# Altium footprint library micro-fujitsu.PCBLIB: 28 footprints (part 1 of 2)
Each footprint in its own frame and in the unit in brackets; x right, y up, seen from the top. Pads: shape width x height; smd on the part's side, far side on the other; paste and mask are expansions set on the pad; w line width, h text height; cw(c..) or ccw(c..) is an arc to the next point about the centre after c.
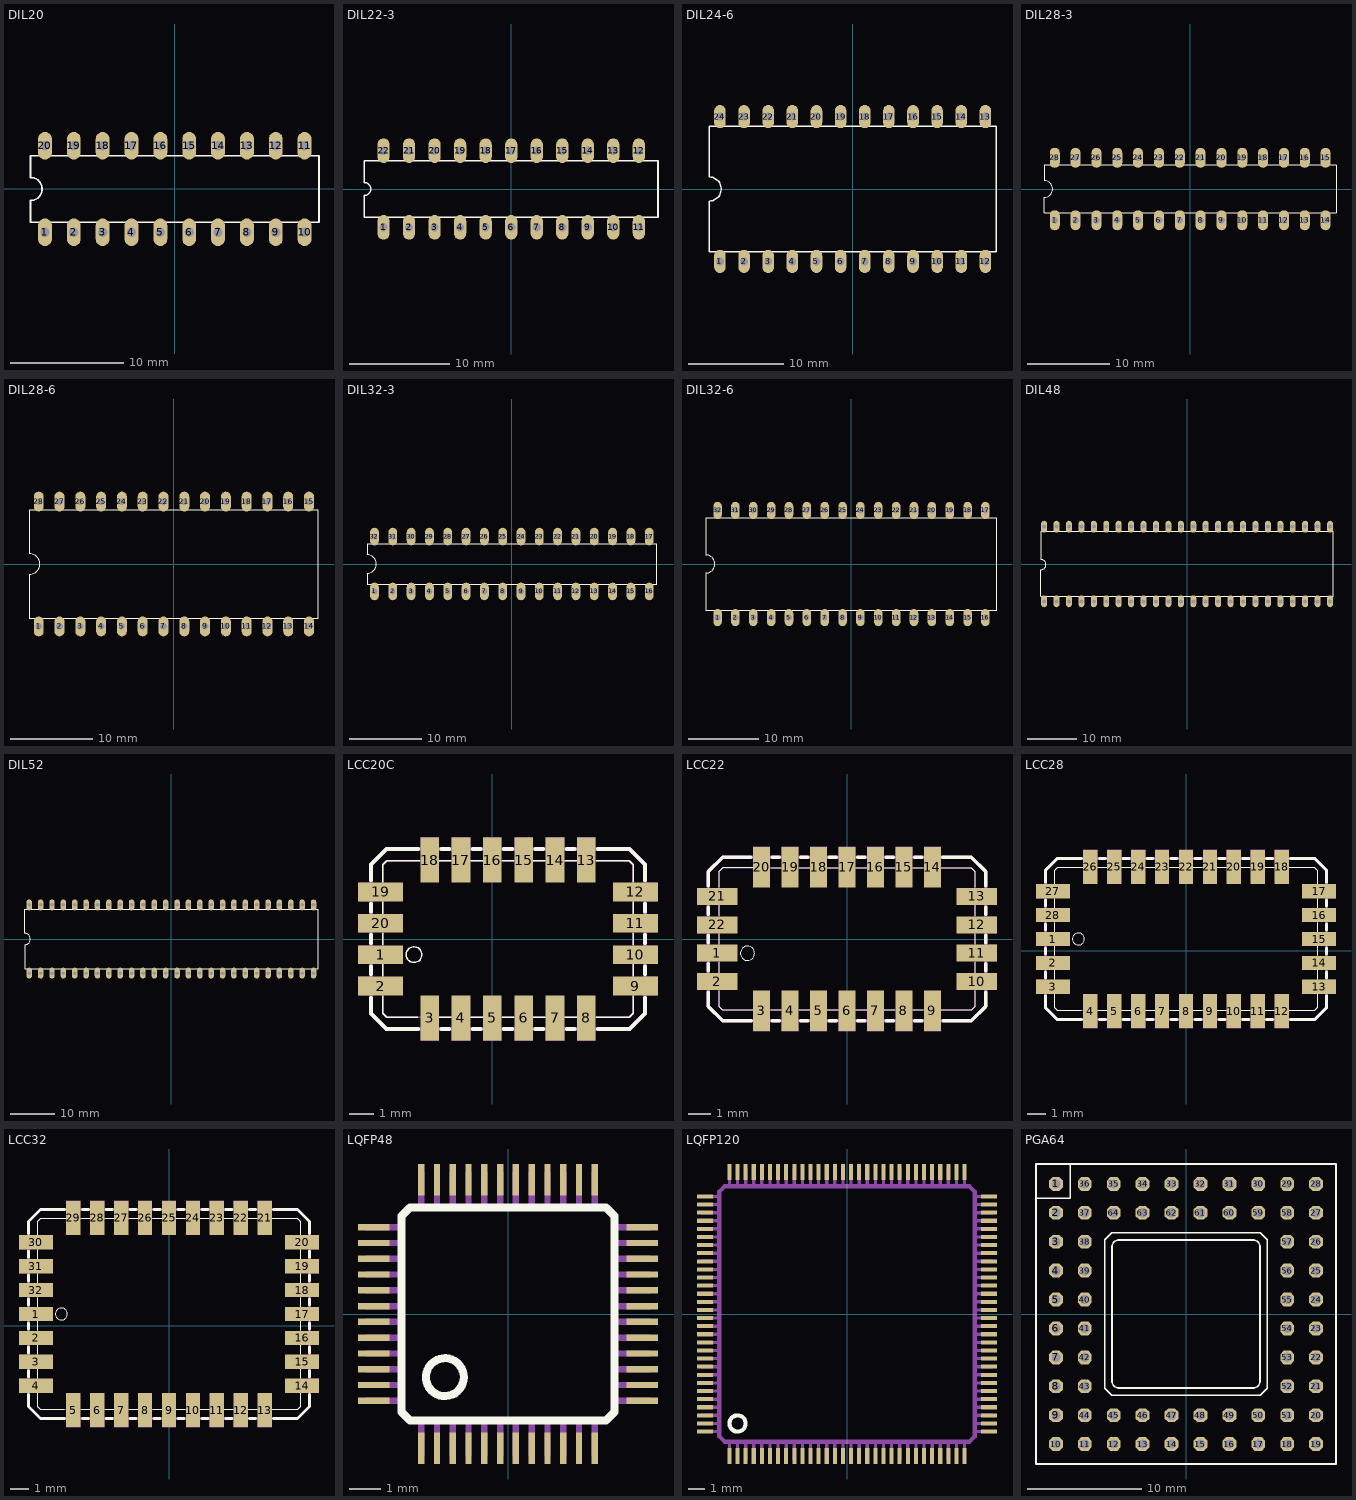
[diagram p0: the footprints below, top view; thin cyan lines are the x and y axes]

## DIL20 [mil]
pads (20):
  oval 48x96 hole 32: 1(-450,-150) 2(-350,-150) 3(-250,-150) 4(-150,-150) 5(-50,-150) 6(50,-150) 7(150,-150) 8(250,-150) 9(350,-150) 10(450,-150) 11(450,150) 12(350,150) 13(250,150) 14(150,150) 15(50,150) 16(-50,150) 17(-150,150) 18(-250,150) 19(-350,150) 20(-450,150)
Top Overlay:
  lines w6: -500,-115 500,-115 500,115 -500,115 -500,40 cw(c-500,0) -500,-40 -500,-115

## DIL22-3 [mil]
pads (22):
  oval 48x96 hole 32: 1(-500,-150) 2(-400,-150) 3(-300,-150) 4(-200,-150) 5(-100,-150) 6(0,-150) 7(100,-150) 8(200,-150) 9(300,-150) 10(400,-150) 11(500,-150) 12(500,150) 13(400,150) 14(300,150) 15(200,150) 16(100,150) 17(0,150) 18(-100,150) 19(-200,150) 20(-300,150) 21(-400,150) 22(-500,150)
Top Overlay:
  lines w6: -575,-110 -575,-25 ccw(c-575,0) -575,25 -575,110 575,110 575,-110 -575,-110

## DIL24-6 [mil]
pads (24):
  oval 48x96 hole 32: 1(-550,-300) 2(-450,-300) 3(-350,-300) 4(-250,-300) 5(-150,-300) 6(-50,-300) 7(50,-300) 8(150,-300) 9(250,-300) 10(350,-300) 11(450,-300) 12(550,-300) 13(550,300) 14(450,300) 15(350,300) 16(250,300) 17(150,300) 18(50,300) 19(-50,300) 20(-150,300) 21(-250,300) 22(-350,300) 23(-450,300) 24(-550,300)
Top Overlay:
  lines w6: -595,-260 -595,-50 ccw(c-595,0) -595,50 -595,260 595,260 595,-260 -595,-260

## DIL28-3 [mil]
pads (28):
  oval 48x96 hole 32: 1(-650,-150) 2(-550,-150) 3(-450,-150) 4(-350,-150) 5(-250,-150) 6(-150,-150) 7(-50,-150) 8(50,-150) 9(150,-150) 10(250,-150) 11(350,-150) 12(450,-150) 13(550,-150) 14(650,-150) 15(650,150) 16(550,150) 17(450,150) 18(350,150) 19(250,150) 20(150,150) 21(50,150) 22(-50,150) 23(-150,150) 24(-250,150) 25(-350,150) 26(-450,150) 27(-550,150) 28(-650,150)
Top Overlay:
  lines w6: -700,-115 700,-115 700,115 -700,115 -700,40 cw(c-700,0) -700,-40 -700,-115

## DIL28-6 [mil]
pads (28):
  oval 48x96 hole 32: 1(-650,-300) 2(-550,-300) 3(-450,-300) 4(-350,-300) 5(-250,-300) 6(-150,-300) 7(-50,-300) 8(50,-300) 9(150,-300) 10(250,-300) 11(350,-300) 12(450,-300) 13(550,-300) 14(650,-300) 15(650,300) 16(550,300) 17(450,300) 18(350,300) 19(250,300) 20(150,300) 21(50,300) 22(-50,300) 23(-150,300) 24(-250,300) 25(-350,300) 26(-450,300) 27(-550,300) 28(-650,300)
Top Overlay:
  lines w6: -695,-260 -695,-50 ccw(c-695,0) -695,50 -695,260 695,260 695,-260 -695,-260

## DIL32-3 [mil]
pads (32):
  oval 48x96 hole 32: 1(-750,-150) 2(-650,-150) 3(-550,-150) 4(-450,-150) 5(-350,-150) 6(-250,-150) 7(-150,-150) 8(-50,-150) 9(50,-150) 10(150,-150) 11(250,-150) 12(350,-150) 13(450,-150) 14(550,-150) 15(650,-150) 16(750,-150) 17(750,150) 18(650,150) 19(550,150) 20(450,150) 21(350,150) 22(250,150) 23(150,150) 24(50,150) 25(-50,150) 26(-150,150) 27(-250,150) 28(-350,150) 29(-450,150) 30(-550,150) 31(-650,150) 32(-750,150)
Top Overlay:
  lines w6: -790,-110 -790,-50 ccw(c-790,0) -790,50 -790,110 790,110 790,-110 -790,-110

## DIL32-6 [mil]
pads (32):
  oval 48x96 hole 32: 1(-750,-300) 2(-650,-300) 3(-550,-300) 4(-450,-300) 5(-350,-300) 6(-250,-300) 7(-150,-300) 8(-50,-300) 9(50,-300) 10(150,-300) 11(250,-300) 12(350,-300) 13(450,-300) 14(550,-300) 15(650,-300) 16(750,-300) 17(750,300) 18(650,300) 19(550,300) 20(450,300) 21(350,300) 22(250,300) 23(150,300) 24(50,300) 25(-50,300) 26(-150,300) 27(-250,300) 28(-350,300) 29(-450,300) 30(-550,300) 31(-650,300) 32(-750,300)
Top Overlay:
  lines w6: -815,-260 -815,-50 ccw(c-815,0) -815,50 -815,260 815,260 815,-260 -815,-260

## DIL48 [mil]
pads (48):
  oval 48x96 hole 32: 1(-1150,-300) 2(-1050,-300) 3(-950,-300) 4(-850,-300) 5(-750,-300) 6(-650,-300) 7(-550,-300) 8(-450,-300) 9(-350,-300) 10(-250,-300) 11(-150,-300) 12(-50,-300) 13(50,-300) 14(150,-300) 15(250,-300) 16(350,-300) 17(450,-300) 18(550,-300) 19(650,-300) 20(750,-300) 21(850,-300) 22(950,-300) 23(1050,-300) 24(1150,-300) 25(1150,300) 26(1050,300) 27(950,300) 28(850,300) 29(750,300) 30(650,300) 31(550,300) 32(450,300) 33(350,300) 34(250,300) 35(150,300) 36(50,300) 37(-50,300) 38(-150,300) 39(-250,300) 40(-350,300) 41(-450,300) 42(-550,300) 43(-650,300) 44(-750,300) 45(-850,300) 46(-950,300) 47(-1050,300) 48(-1150,300)
Top Overlay:
  lines w6: -1175,-260 1175,-260 1175,260 -1175,260 -1175,35 cw(c-1175,-5) -1175,-45 -1175,-260

## DIL52 [mil]
pads (52):
  oval 48x96 hole 32: 1(-1250,-300) 2(-1150,-300) 3(-1050,-300) 4(-950,-300) 5(-850,-300) 6(-750,-300) 7(-650,-300) 8(-550,-300) 9(-450,-300) 10(-350,-300) 11(-250,-300) 12(-150,-300) 13(-50,-300) 14(50,-300) 15(150,-300) 16(250,-300) 17(350,-300) 18(450,-300) 19(550,-300) 20(650,-300) 21(750,-300) 22(850,-300) 23(950,-300) 24(1050,-300) 25(1150,-300) 26(1250,-300) 27(1250,300) 28(1150,300) 29(1050,300) 30(950,300) 31(850,300) 32(750,300) 33(650,300) 34(550,300) 35(450,300) 36(350,300) 37(250,300) 38(150,300) 39(50,300) 40(-50,300) 41(-150,300) 42(-250,300) 43(-350,300) 44(-450,300) 45(-550,300) 46(-650,300) 47(-750,300) 48(-850,300) 49(-950,300) 50(-1050,300) 51(-1150,300) 52(-1250,300)
Top Overlay:
  lines w6: -1290,-260 -1290,-50 ccw(c-1290,0) -1290,50 -1290,260 1290,260 1290,-260 -1290,-260

## LCC20C [mil]
pads (20):
  rect 72.01x30 smd: 1(-178.35,-25) 2(-178.35,-75) 9(228.35,-75) 10(228.35,-25) 11(228.35,25) 12(228.35,75) 19(-178.35,75) 20(-178.35,25)
  rect 30x72.01 smd: 3(-100,-125.98) 4(-50,-125.98) 5(0,-125.98) 6(50,-125.98) 7(100,-125.98) 8(150,-125.98) 13(150,125.98) 14(100,125.98) 15(50,125.98) 16(0,125.98) 17(-50,125.98) 18(-100,125.98)
Top Overlay:
  circle w2: c-125,-25 r12.5
  lines w2: -175,-90.63 -175,-118.74 -168.74,-125 -118.74,-125 ; -175,-59.37 -175,-40.63 ; -175,-9.37 -175,9.37 ; -175,40.63 -175,59.37 ; -175,90.63 -175,118.74 -168.74,125 -115.63,125 ; -84.37,-125 -65.63,-125 ; -84.37,125 -65.63,125 ; -34.37,-125 -15.63,-125 ; -34.37,125 -15.63,125 ; 15.63,-125 34.37,-125 ; 15.63,125 34.37,125 ; 65.63,-125 84.37,-125 ; 65.63,125 84.37,125 ; 115.63,-125 134.37,-125 ; 115.63,125 134.37,125 ; 165.63,-125 218.74,-125 225,-118.74 225,-90.63 ; 165.63,125 218.74,125 225,118.74 225,90.63 ; 225,-59.37 225,-40.63 ; 225,-9.37 225,9.37 ; 225,40.63 225,59.37
  lines w6: -193.74,-93.74 -193.74,-118.74 -168.74,-143.74 -118.74,-143.74 ; -193.74,-56.26 -193.74,-43.74 ; -193.74,-6.26 -193.75,6.25 ; -193.75,43.75 -193.75,56.25 ; -193.75,93.75 -193.75,118.75 -168.75,143.75 -118.75,143.75 ; -81.26,-143.74 -68.74,-143.74 ; -81.25,143.75 -68.75,143.75 ; -31.26,-143.74 -18.74,-143.74 ; -31.25,143.75 -18.75,143.75 ; 18.75,-143.75 31.25,-143.75 ; 18.74,143.74 31.26,143.74 ; 68.75,-143.75 81.25,-143.75 ; 68.74,143.74 81.26,143.74 ; 118.75,-143.75 131.25,-143.75 ; 118.74,143.74 131.26,143.74 ; 168.75,-143.75 218.75,-143.75 243.75,-118.75 243.75,-93.75 ; 168.74,143.74 218.74,143.74 243.74,118.74 243.74,93.74 ; 243.75,-56.25 243.75,-43.75 ; 243.75,-6.25 243.74,6.26 ; 243.74,43.74 243.74,56.26
Mechanical 16:
  rectangle: -114.96,144.88 -85.04,162.6
  rectangle: -64.96,144.88 -35.04,162.6
  rectangle: -14.96,144.88 14.96,162.6
  rectangle: 35.04,144.88 64.96,162.6
  rectangle: 85.04,144.88 114.96,162.6
  rectangle: -114.96,-162.6 -85.04,-144.88
  rectangle: -64.96,-162.6 -35.04,-144.88
  rectangle: -14.96,-162.6 14.96,-144.88
  rectangle: 35.04,-162.6 64.96,-144.88
  rectangle: 85.04,-162.6 114.96,-144.88
  rectangle: 246.06,60.04 263.78,89.96
  rectangle: 246.06,10.04 263.78,39.96
  rectangle: 246.06,-39.96 263.78,-10.04
  rectangle: 246.06,-89.96 263.78,-60.04
  rectangle: -213.78,60.04 -196.06,89.96
  rectangle: -213.78,10.04 -196.06,39.96
  rectangle: -213.78,-39.96 -196.06,-10.04
  rectangle: -213.78,-89.96 -196.06,-60.04
  rectangle: 135.04,144.88 164.96,162.6
  rectangle: 135.04,-162.6 164.96,-144.88
  lines w2: -175,-118.74 -168.74,-125 218.74,-125 225,-118.74 225,118.74 218.74,125 -168.74,125 -175,118.74 -175,-118.74
  lines w6: 37.4,144.88 62.6,144.88 ; 87.4,144.88 112.6,144.88 ; 137.4,144.88 162.6,144.88 ; -193.74,-118.74 -168.74,-143.74 218.75,-143.75 243.75,-118.75 243.74,118.74 218.74,143.74 -168.75,143.75 -193.75,118.75 -193.74,-118.74

## LCC22 [mil]
pads (22):
  rect 70.87x29.92 smd: 1(-228.35,-25) 2(-228.35,-75) 10(228.35,-75) 11(228.35,-25) 12(228.35,25) 13(228.35,75) 21(-228.35,75) 22(-228.35,25)
  rect 29.92x70.87 smd: 3(-150,-125.98) 4(-100,-125.98) 5(-50,-125.98) 6(0,-125.98) 7(50,-125.98) 8(100,-125.98) 9(150,-125.98) 14(150,125.98) 15(100,125.98) 16(50,125.98) 17(0,125.98) 18(-50,125.98) 19(-100,125.98) 20(-150,125.98)
Top Overlay:
  circle w2: c-175,-25 r12.5
  lines w2: -225,-90.63 -225,-118.74 -218.74,-125 -165.63,-125 ; -225,-59.37 -225,-40.63 ; -225,-9.37 -225,9.37 ; -225,40.63 -225,59.37 ; -225,90.63 -225,118.74 -218.74,125 -165.63,125 ; -134.37,-125 -115.63,-125 ; -134.37,125 -115.63,125 ; -84.37,-125 -65.63,-125 ; -84.37,125 -65.63,125 ; -34.37,-125 -15.63,-125 ; -34.37,125 -15.63,125 ; 15.63,-125 34.37,-125 ; 15.63,125 34.37,125 ; 65.63,-125 84.37,-125 ; 65.63,125 84.37,125 ; 115.63,-125 134.37,-125 ; 115.63,125 134.37,125 ; 165.63,-125 218.74,-125 225,-118.74 225,-90.63 ; 165.63,125 218.74,125 225,118.74 225,90.63 ; 225,-59.37 225,-40.63 ; 225,-9.37 225,9.37 ; 225,40.63 225,59.37
  lines w6: -243.74,-93.74 -243.74,-118.74 -218.74,-143.74 -168.74,-143.74 ; -243.74,-56.26 -243.74,-43.74 ; -243.74,-6.26 -243.75,6.25 ; -243.75,43.75 -243.75,56.25 ; -243.75,93.75 -243.75,118.75 -218.75,143.75 -168.75,143.75 ; -131.26,-143.74 -118.74,-143.74 ; -131.25,143.75 -118.75,143.75 ; -81.26,-143.74 -68.74,-143.74 ; -81.25,143.75 -68.75,143.75 ; -31.26,-143.74 -18.74,-143.74 ; -31.25,143.75 -18.75,143.75 ; 18.75,-143.75 31.25,-143.75 ; 18.74,143.74 31.26,143.74 ; 68.75,-143.75 81.25,-143.75 ; 68.74,143.74 81.26,143.74 ; 118.75,-143.75 131.25,-143.75 ; 118.74,143.74 131.26,143.74 ; 168.75,-143.75 218.75,-143.75 243.75,-118.75 243.75,-93.75 ; 168.74,143.74 218.74,143.74 243.74,118.74 243.74,93.74 ; 243.75,-56.25 243.75,-43.75 ; 243.75,-6.25 243.74,6.26 ; 243.74,43.74 243.74,56.26
Mechanical 16:
  rectangle: -114.96,144.88 -85.04,162.6
  rectangle: -64.96,144.88 -35.04,162.6
  rectangle: -14.96,144.88 14.96,162.6
  rectangle: 35.04,144.88 64.96,162.6
  rectangle: 85.04,144.88 114.96,162.6
  rectangle: -114.96,-162.6 -85.04,-144.88
  rectangle: -64.96,-162.6 -35.04,-144.88
  rectangle: -14.96,-162.6 14.96,-144.88
  rectangle: 35.04,-162.6 64.96,-144.88
  rectangle: 85.04,-162.6 114.96,-144.88
  rectangle: 246.06,60.04 263.78,89.96
  rectangle: 246.06,10.04 263.78,39.96
  rectangle: 246.06,-39.96 263.78,-10.04
  rectangle: 246.06,-89.96 263.78,-60.04
  rectangle: -263.78,60.04 -246.06,89.96
  rectangle: -263.78,10.04 -246.06,39.96
  rectangle: -263.78,-39.96 -246.06,-10.04
  rectangle: -263.78,-89.96 -246.06,-60.04
  rectangle: 135.04,144.88 164.96,162.6
  rectangle: 135.04,-162.6 164.96,-144.88
  rectangle: -164.96,144.88 -135.04,162.6
  rectangle: -164.96,-162.6 -135.04,-144.88
  lines w2: -225,-118.74 -218.74,-125 218.74,-125 225,-118.74 225,118.74 218.74,125 -218.74,125 -225,118.74 -225,-118.74
  lines w6: 37.4,144.88 62.6,144.88 ; 87.4,144.88 112.6,144.88 ; 137.4,144.88 162.6,144.88 ; -243.74,-118.74 -218.74,-143.74 218.75,-143.75 243.75,-118.75 243.74,118.74 218.74,143.74 -218.75,143.75 -243.75,118.75 -243.74,-118.74

## LCC28 [mil]
pads (28):
  rect 70.87x29.92 smd: 1(-278.35,25) 2(-278.35,-25) 3(-278.35,-75) 13(278.35,-75) 14(278.35,-25) 15(278.35,25) 16(278.35,75) 17(278.35,125) 27(-278.35,125) 28(-278.35,75)
  rect 29.92x70.87 smd: 4(-200,-125.98) 5(-150,-125.98) 6(-100,-125.98) 7(-50,-125.98) 8(0,-125.98) 9(50,-125.98) 10(100,-125.98) 11(150,-125.98) 12(200,-125.98) 18(200,175.98) 19(150,175.98) 20(100,175.98) 21(50,175.98) 22(0,175.98) 23(-50,175.98) 24(-100,175.98) 25(-150,175.98) 26(-200,175.98)
Top Overlay:
  circle w2: c-225,25 r12.5
  lines w2: -275,-90.63 -275,-118.74 -268.74,-125 -218.74,-125 ; -275,-59.37 -275,-40.63 ; -275,-9.37 -275,9.37 ; -275,40.63 -275,59.37 ; -275,90.63 -275,109.37 ; -275,140.63 -275,168.74 -268.74,175 -215.63,175 ; -184.37,-125 -165.63,-125 ; -184.37,175 -165.63,175 ; -134.37,-125 -115.63,-125 ; -134.37,175 -115.63,175 ; -84.37,-125 -65.63,-125 ; -84.37,175 -65.63,175 ; -34.37,-125 -15.63,-125 ; -34.37,175 -15.63,175 ; 15.63,-125 34.37,-125 ; 15.63,175 34.37,175 ; 65.63,-125 84.37,-125 ; 65.63,175 84.37,175 ; 115.63,-125 134.37,-125 ; 115.63,175 134.37,175 ; 165.63,-125 184.37,-125 ; 165.63,175 184.37,175 ; 215.63,-125 268.74,-125 275,-118.74 275,-90.63 ; 215.63,175 268.74,175 275,168.74 275,140.63 ; 275,-59.37 275,-40.63 ; 275,-9.37 275,9.37 ; 275,40.63 275,59.37 ; 275,90.63 275,109.37
  lines w6: -293.74,-93.74 -293.74,-118.74 -268.74,-143.74 -218.74,-143.74 ; -293.74,-56.26 -293.74,-43.74 ; -293.74,-6.26 -293.75,6.25 ; -293.74,43.74 -293.75,56.25 ; -293.74,93.74 -293.75,106.25 ; -293.75,143.75 -293.75,168.75 -268.75,193.75 -218.75,193.75 ; -181.26,-143.74 -168.74,-143.74 ; -181.25,193.75 -168.75,193.75 ; -131.26,-143.74 -118.74,-143.74 ; -131.25,193.75 -118.75,193.75 ; -81.26,-143.74 -68.74,-143.74 ; -81.25,193.75 -68.75,193.75 ; -31.26,-143.74 -18.74,-143.74 ; -31.25,193.75 -18.75,193.75 ; 18.75,-143.75 31.25,-143.75 ; 18.74,193.74 31.26,193.74 ; 68.75,-143.75 81.25,-143.75 ; 68.74,193.74 81.26,193.74 ; 118.75,-143.75 131.25,-143.75 ; 118.74,193.74 131.26,193.74 ; 168.75,-143.75 181.25,-143.75 ; 168.74,193.74 181.26,193.74 ; 218.75,-143.75 268.75,-143.75 293.75,-118.75 293.75,-93.75 ; 218.74,193.74 268.74,193.74 293.74,168.74 293.74,143.74 ; 293.75,-56.25 293.75,-43.75 ; 293.75,-6.25 293.74,6.26 ; 293.75,43.75 293.74,56.26 ; 293.75,93.75 293.74,106.26
Mechanical 16:
  rectangle: -114.96,194.88 -85.04,212.6
  rectangle: -64.96,194.88 -35.04,212.6
  rectangle: -14.96,194.88 14.96,212.6
  rectangle: 35.04,194.88 64.96,212.6
  rectangle: 85.04,194.88 114.96,212.6
  rectangle: -114.96,-162.6 -85.04,-144.88
  rectangle: -64.96,-162.6 -35.04,-144.88
  rectangle: -14.96,-162.6 14.96,-144.88
  rectangle: 35.04,-162.6 64.96,-144.88
  rectangle: 85.04,-162.6 114.96,-144.88
  rectangle: 296.06,110.04 313.78,139.96
  rectangle: 296.06,10.04 313.78,39.96
  rectangle: 296.06,-39.96 313.78,-10.04
  rectangle: 296.06,-89.96 313.78,-60.04
  rectangle: -313.78,110.04 -296.06,139.96
  rectangle: -313.78,10.04 -296.06,39.96
  rectangle: -313.78,-39.96 -296.06,-10.04
  rectangle: -313.78,-89.96 -296.06,-60.04
  rectangle: 135.04,194.88 164.96,212.6
  rectangle: 135.04,-162.6 164.96,-144.88
  rectangle: -214.96,194.88 -185.04,212.6
  rectangle: -164.96,194.88 -135.04,212.6
  rectangle: -214.96,-162.6 -185.04,-144.88
  rectangle: -164.96,-162.6 -135.04,-144.88
  rectangle: 296.06,60.04 313.78,89.96
  rectangle: -313.78,60.04 -296.06,89.96
  rectangle: 185.04,194.88 214.96,212.6
  rectangle: 185.04,-162.6 214.96,-144.88
  lines w2: -275,-118.74 -268.74,-125 268.74,-125 275,-118.74 275,168.74 268.74,175 -268.74,175 -275,168.74 -275,-118.74
  lines w6: 37.4,194.88 62.6,194.88 ; 87.4,194.88 112.6,194.88 ; 137.4,194.88 162.6,194.88 ; 187.4,194.88 212.6,194.88 ; -293.74,-118.74 -268.74,-143.74 268.75,-143.75 293.75,-118.75 293.74,168.74 268.74,193.74 -268.75,193.75 -293.75,168.75 -293.74,-118.74

## LCC32 [mil]
pads (32):
  rect 70.87x29.92 smd: 1(-278.35,25) 2(-278.35,-25) 3(-278.35,-75) 4(-278.35,-125) 14(278.35,-125) 15(278.35,-75) 16(278.35,-25) 17(278.35,25) 18(278.35,75) 19(278.35,125) 20(278.35,175) 30(-278.35,175) 31(-278.35,125) 32(-278.35,75)
  rect 29.92x70.87 smd: 5(-200,-175.98) 6(-150,-175.98) 7(-100,-175.98) 8(-50,-175.98) 9(0,-175.98) 10(50,-175.98) 11(100,-175.98) 12(150,-175.98) 13(200,-175.98) 21(200,225.98) 22(150,225.98) 23(100,225.98) 24(50,225.98) 25(0,225.98) 26(-50,225.98) 27(-100,225.98) 28(-150,225.98) 29(-200,225.98)
Top Overlay:
  circle w2: c-225,25 r12.5
  lines w2: -275,-140.63 -275,-168.74 -268.74,-175 -218.74,-175 ; -275,-109.37 -275,-90.63 ; -275,-59.37 -275,-40.63 ; -275,-9.37 -275,9.37 ; -275,40.63 -275,59.37 ; -275,90.63 -275,109.37 ; -275,140.63 -275,159.37 ; -275,190.63 -275,218.74 -268.74,225 -215.63,225 ; -184.37,-175 -165.63,-175 ; -184.37,225 -165.63,225 ; -134.37,-175 -115.63,-175 ; -134.37,225 -115.63,225 ; -84.37,-175 -65.63,-175 ; -84.37,225 -65.63,225 ; -34.37,-175 -15.63,-175 ; -34.37,225 -15.63,225 ; 15.63,-175 34.37,-175 ; 15.63,225 34.37,225 ; 65.63,-175 84.37,-175 ; 65.63,225 84.37,225 ; 115.63,-175 134.37,-175 ; 115.63,225 134.37,225 ; 165.63,-175 184.37,-175 ; 165.63,225 184.37,225 ; 215.63,-175 268.74,-175 275,-168.74 275,-140.63 ; 215.63,225 268.74,225 275,218.74 275,190.63 ; 275,-109.37 275,-90.63 ; 275,-59.37 275,-40.63 ; 275,-9.37 275,9.37 ; 275,40.63 275,59.37 ; 275,90.63 275,109.37 ; 275,140.63 275,159.37
  lines w6: -293.74,-143.74 -293.74,-168.74 -268.74,-193.74 -218.74,-193.74 ; -293.74,-106.26 -293.74,-93.74 ; -293.74,-56.26 -293.74,-43.74 ; -293.74,-6.26 -293.75,6.25 ; -293.74,43.74 -293.75,56.25 ; -293.74,93.74 -293.75,106.25 ; -293.74,143.74 -293.75,156.25 ; -293.75,193.75 -293.75,218.75 -268.75,243.75 -218.75,243.75 ; -181.26,-193.74 -168.74,-193.74 ; -181.25,243.75 -168.75,243.75 ; -131.26,-193.74 -118.74,-193.74 ; -131.25,243.75 -118.75,243.75 ; -81.26,-193.74 -68.74,-193.74 ; -81.25,243.75 -68.75,243.75 ; -31.26,-193.74 -18.74,-193.74 ; -31.25,243.75 -18.75,243.75 ; 18.75,-193.75 31.25,-193.75 ; 18.74,243.74 31.26,243.74 ; 68.75,-193.75 81.25,-193.75 ; 68.74,243.74 81.26,243.74 ; 118.75,-193.75 131.25,-193.75 ; 118.74,243.74 131.26,243.74 ; 168.75,-193.75 181.25,-193.75 ; 168.74,243.74 181.26,243.74 ; 218.75,-193.75 268.75,-193.75 293.75,-168.75 293.75,-143.75 ; 218.74,243.74 268.74,243.74 293.74,218.74 293.74,193.74 ; 293.75,-106.25 293.75,-93.75 ; 293.75,-56.25 293.75,-43.75 ; 293.75,-6.25 293.74,6.26 ; 293.75,43.75 293.74,56.26 ; 293.75,93.75 293.74,106.26 ; 293.75,143.75 293.74,156.26
Mechanical 16:
  rectangle: -114.96,244.88 -85.04,262.6
  rectangle: -64.96,244.88 -35.04,262.6
  rectangle: -14.96,244.88 14.96,262.6
  rectangle: 35.04,244.88 64.96,262.6
  rectangle: 85.04,244.88 114.96,262.6
  rectangle: -114.96,-212.6 -85.04,-194.88
  rectangle: -64.96,-212.6 -35.04,-194.88
  rectangle: -14.96,-212.6 14.96,-194.88
  rectangle: 35.04,-212.6 64.96,-194.88
  rectangle: 85.04,-212.6 114.96,-194.88
  rectangle: 296.06,110.04 313.78,139.96
  rectangle: 296.06,10.04 313.78,39.96
  rectangle: 296.06,-39.96 313.78,-10.04
  rectangle: 296.06,-89.96 313.78,-60.04
  rectangle: -313.78,110.04 -296.06,139.96
  rectangle: -313.78,10.04 -296.06,39.96
  rectangle: -313.78,-39.96 -296.06,-10.04
  rectangle: -313.78,-89.96 -296.06,-60.04
  rectangle: 135.04,244.88 164.96,262.6
  rectangle: 135.04,-212.6 164.96,-194.88
  rectangle: -214.96,244.88 -185.04,262.6
  rectangle: -164.96,244.88 -135.04,262.6
  rectangle: -214.96,-212.6 -185.04,-194.88
  rectangle: -164.96,-212.6 -135.04,-194.88
  rectangle: 296.06,60.04 313.78,89.96
  rectangle: -313.78,60.04 -296.06,89.96
  rectangle: 185.04,244.88 214.96,262.6
  rectangle: 185.04,-212.6 214.96,-194.88
  rectangle: 296.06,160.04 313.78,189.96
  rectangle: -313.78,160.04 -296.06,189.96
  rectangle: 296.06,-139.96 313.78,-110.04
  rectangle: -313.78,-139.96 -296.06,-110.04
  lines w2: -275,-168.74 -268.74,-175 268.74,-175 275,-168.74 275,218.74 268.74,225 -268.74,225 -275,218.74 -275,-168.74
  lines w6: 37.4,244.88 62.6,244.88 ; 87.4,244.88 112.6,244.88 ; 137.4,244.88 162.6,244.88 ; 187.4,244.88 212.6,244.88 ; -293.74,-168.74 -268.74,-193.74 268.75,-193.75 293.75,-168.75 293.74,218.74 268.74,243.74 -268.75,243.75 -293.75,218.75 -293.74,-168.74

## LQFP48 [mm]
pads (48):
  rect 0.2x1 smd: 1(-2.75,-4.25) 2(-2.25,-4.25) 3(-1.75,-4.25) 4(-1.25,-4.25) 5(-0.75,-4.25) 6(-0.25,-4.25) 7(0.25,-4.25) 8(0.75,-4.25) 9(1.25,-4.25) 10(1.75,-4.25) 11(2.25,-4.25) 12(2.75,-4.25) 25(2.75,4.25) 26(2.25,4.25) 27(1.75,4.25) 28(1.25,4.25) 29(0.75,4.25) 30(0.25,4.25) 31(-0.25,4.25) 32(-0.75,4.25) 33(-1.25,4.25) 34(-1.75,4.25) 35(-2.25,4.25) 36(-2.75,4.25)
  rect 1x0.2 smd: 13(4.25,-2.75) 14(4.25,-2.25) 15(4.25,-1.75) 16(4.25,-1.25) 17(4.25,-0.75) 18(4.25,-0.25) 19(4.25,0.25) 20(4.25,0.75) 21(4.25,1.25) 22(4.25,1.75) 23(4.25,2.25) 24(4.25,2.75) 37(-4.25,2.75) 38(-4.25,2.25) 39(-4.25,1.75) 40(-4.25,1.25) 41(-4.25,0.75) 42(-4.25,0.25) 43(-4.25,-0.25) 44(-4.25,-0.75) 45(-4.25,-1.25) 46(-4.25,-1.75) 47(-4.25,-2.25) 48(-4.25,-2.75)
Top Overlay:
  circle w0.254: c-2,-2 r0.6
  lines w0.254: -3.375,-3.1 -3.1,-3.375 3.1,-3.375 3.375,-3.1 3.375,3.1 3.1,3.375 -3.1,3.375 -3.375,3.1 -3.375,-3.1
Mechanical 16:
  rectangle: -2.85,-4.5 -2.65,-3.45
  rectangle: -2.35,-4.5 -2.15,-3.45
  rectangle: -1.85,-4.5 -1.65,-3.45
  rectangle: -1.35,-4.5 -1.15,-3.45
  rectangle: -0.85,-4.5 -0.65,-3.45
  rectangle: -0.35,-4.5 -0.15,-3.45
  rectangle: 0.15,-4.5 0.35,-3.45
  rectangle: 0.65,-4.5 0.85,-3.45
  rectangle: 1.15,-4.5 1.35,-3.45
  rectangle: 1.65,-4.5 1.85,-3.45
  rectangle: 2.15,-4.5 2.35,-3.45
  rectangle: 2.65,-4.5 2.85,-3.45
  rectangle: 3.45,-2.85 4.5,-2.65
  rectangle: 3.45,-2.35 4.5,-2.15
  rectangle: 3.45,-1.85 4.5,-1.65
  rectangle: 3.45,-1.35 4.5,-1.15
  rectangle: 3.45,-0.85 4.5,-0.65
  rectangle: 3.45,-0.35 4.5,-0.15
  rectangle: 3.45,0.15 4.5,0.35
  rectangle: 3.45,0.65 4.5,0.85
  rectangle: 3.45,1.15 4.5,1.35
  rectangle: 3.45,1.65 4.5,1.85
  rectangle: 3.45,2.15 4.5,2.35
  rectangle: 3.45,2.65 4.5,2.85
  rectangle: 2.65,3.45 2.85,4.5
  rectangle: 2.15,3.45 2.35,4.5
  rectangle: 1.65,3.45 1.85,4.5
  rectangle: 1.15,3.45 1.35,4.5
  rectangle: 0.65,3.45 0.85,4.5
  rectangle: 0.15,3.45 0.35,4.5
  rectangle: -0.35,3.45 -0.15,4.5
  rectangle: -0.85,3.45 -0.65,4.5
  rectangle: -1.35,3.45 -1.15,4.5
  rectangle: -1.85,3.45 -1.65,4.5
  rectangle: -2.35,3.45 -2.15,4.5
  rectangle: -2.85,3.45 -2.65,4.5
  rectangle: -4.5,2.65 -3.45,2.85
  rectangle: -4.5,2.15 -3.45,2.35
  rectangle: -4.5,1.65 -3.45,1.85
  rectangle: -4.5,1.15 -3.45,1.35
  rectangle: -4.5,0.65 -3.45,0.85
  rectangle: -4.5,0.15 -3.45,0.35
  rectangle: -4.5,-0.35 -3.45,-0.15
  rectangle: -4.5,-0.85 -3.45,-0.65
  rectangle: -4.5,-1.35 -3.45,-1.15
  rectangle: -4.5,-1.85 -3.45,-1.65
  rectangle: -4.5,-2.35 -3.45,-2.15
  rectangle: -4.5,-2.85 -3.45,-2.65

## LQFP120 [mm]
pads (120):
  rect 0.25x1 smd: 1(-7.25,-8.75) 2(-6.75,-8.75) 3(-6.25,-8.75) 4(-5.75,-8.75) 5(-5.25,-8.75) 6(-4.75,-8.75) 7(-4.25,-8.75) 8(-3.75,-8.75) 9(-3.25,-8.75) 10(-2.75,-8.75) 11(-2.25,-8.75) 12(-1.75,-8.75) 13(-1.25,-8.75) 14(-0.75,-8.75) 15(-0.25,-8.75) 16(0.25,-8.75) 17(0.75,-8.75) 18(1.25,-8.75) 19(1.75,-8.75) 20(2.25,-8.75) 21(2.75,-8.75) 22(3.25,-8.75) 23(3.75,-8.75) 24(4.25,-8.75) 25(4.75,-8.75) 26(5.25,-8.75) 27(5.75,-8.75) 28(6.25,-8.75) 29(6.75,-8.75) 30(7.25,-8.75) 61(7.25,8.75) 62(6.75,8.75) 63(6.25,8.75) 64(5.75,8.75) 65(5.25,8.75) 66(4.75,8.75) 67(4.25,8.75) 68(3.75,8.75) 69(3.25,8.75) 70(2.75,8.75) 71(2.25,8.75) 72(1.75,8.75) 73(1.25,8.75) 74(0.75,8.75) 75(0.25,8.75) 76(-0.25,8.75) 77(-0.75,8.75) 78(-1.25,8.75) 79(-1.75,8.75) 80(-2.25,8.75) 81(-2.75,8.75) 82(-3.25,8.75) 83(-3.75,8.75) 84(-4.25,8.75) 85(-4.75,8.75) 86(-5.25,8.75) 87(-5.75,8.75) 88(-6.25,8.75) 89(-6.75,8.75) 90(-7.25,8.75)
  rect 1x0.25 smd: 31(8.75,-7.25) 32(8.75,-6.75) 33(8.75,-6.25) 34(8.75,-5.75) 35(8.75,-5.25) 36(8.75,-4.75) 37(8.75,-4.25) 38(8.75,-3.75) 39(8.75,-3.25) 40(8.75,-2.75) 41(8.75,-2.25) 42(8.75,-1.75) 43(8.75,-1.25) 44(8.75,-0.75) 45(8.75,-0.25) 46(8.75,0.25) 47(8.75,0.75) 48(8.75,1.25) 49(8.75,1.75) 50(8.75,2.25) 51(8.75,2.75) 52(8.75,3.25) 53(8.75,3.75) 54(8.75,4.25) 55(8.75,4.75) 56(8.75,5.25) 57(8.75,5.75) 58(8.75,6.25) 59(8.75,6.75) 60(8.75,7.25) 91(-8.75,7.25) 92(-8.75,6.75) 93(-8.75,6.25) 94(-8.75,5.75) 95(-8.75,5.25) 96(-8.75,4.75) 97(-8.75,4.25) 98(-8.75,3.75) 99(-8.75,3.25) 100(-8.75,2.75) 101(-8.75,2.25) 102(-8.75,1.75) 103(-8.75,1.25) 104(-8.75,0.75) 105(-8.75,0.25) 106(-8.75,-0.25) 107(-8.75,-0.75) 108(-8.75,-1.25) 109(-8.75,-1.75) 110(-8.75,-2.25) 111(-8.75,-2.75) 112(-8.75,-3.25) 113(-8.75,-3.75) 114(-8.75,-4.25) 115(-8.75,-4.75) 116(-8.75,-5.25) 117(-8.75,-5.75) 118(-8.75,-6.25) 119(-8.75,-6.75) 120(-8.75,-7.25)
Top Overlay:
  circle w0.254: c-6.75,-6.75 r0.5
Mechanical 16:
  rectangle: -7.35,-9 -7.15,-8
  rectangle: -6.85,-9 -6.65,-8
  rectangle: -6.35,-9 -6.15,-8
  rectangle: -5.85,-9 -5.65,-8
  rectangle: -5.35,-9 -5.15,-8
  rectangle: -4.85,-9 -4.65,-8
  rectangle: -4.35,-9 -4.15,-8
  rectangle: -3.85,-9 -3.65,-8
  rectangle: -3.35,-9 -3.15,-8
  rectangle: -2.85,-9 -2.65,-8
  rectangle: -2.35,-9 -2.15,-8
  rectangle: -1.85,-9 -1.65,-8
  rectangle: -1.35,-9 -1.15,-8
  rectangle: -0.85,-9 -0.65,-8
  rectangle: -0.35,-9 -0.15,-8
  rectangle: 0.15,-9 0.35,-8
  rectangle: 0.65,-9 0.85,-8
  rectangle: 1.15,-9 1.35,-8
  rectangle: 1.65,-9 1.85,-8
  rectangle: 2.15,-9 2.35,-8
  rectangle: 2.65,-9 2.85,-8
  rectangle: 3.15,-9 3.35,-8
  rectangle: 3.65,-9 3.85,-8
  rectangle: 4.15,-9 4.35,-8
  rectangle: 4.65,-9 4.85,-8
  rectangle: 5.15,-9 5.35,-8
  rectangle: 5.65,-9 5.85,-8
  rectangle: 6.15,-9 6.35,-8
  rectangle: 6.65,-9 6.85,-8
  rectangle: 7.15,-9 7.35,-8
  rectangle: 8,-7.35 9,-7.15
  rectangle: 8,-6.85 9,-6.65
  rectangle: 8,-6.35 9,-6.15
  rectangle: 8,-5.85 9,-5.65
  rectangle: 8,-5.35 9,-5.15
  rectangle: 8,-4.85 9,-4.65
  rectangle: 8,-4.35 9,-4.15
  rectangle: 8,-3.85 9,-3.65
  rectangle: 8,-3.35 9,-3.15
  rectangle: 8,-2.85 9,-2.65
  rectangle: 8,-2.35 9,-2.15
  rectangle: 8,-1.85 9,-1.65
  rectangle: 8,-1.35 9,-1.15
  rectangle: 8,-0.85 9,-0.65
  rectangle: 8,-0.35 9,-0.15
  rectangle: 8,0.15 9,0.35
  rectangle: 8,0.65 9,0.85
  rectangle: 8,1.15 9,1.35
  rectangle: 8,1.65 9,1.85
  rectangle: 8,2.15 9,2.35
  rectangle: 8,2.65 9,2.85
  rectangle: 8,3.15 9,3.35
  rectangle: 8,3.65 9,3.85
  rectangle: 8,4.15 9,4.35
  rectangle: 8,4.65 9,4.85
  rectangle: 8,5.15 9,5.35
  rectangle: 8,5.65 9,5.85
  rectangle: 8,6.15 9,6.35
  rectangle: 8,6.65 9,6.85
  rectangle: 8,7.15 9,7.35
  rectangle: 7.15,8 7.35,9
  rectangle: 6.65,8 6.85,9
  rectangle: 6.15,8 6.35,9
  rectangle: 5.65,8 5.85,9
  rectangle: 5.15,8 5.35,9
  rectangle: 4.65,8 4.85,9
  rectangle: 4.15,8 4.35,9
  rectangle: 3.65,8 3.85,9
  rectangle: 3.15,8 3.35,9
  rectangle: 2.65,8 2.85,9
  rectangle: 2.15,8 2.35,9
  rectangle: 1.65,8 1.85,9
  rectangle: 1.15,8 1.35,9
  rectangle: 0.65,8 0.85,9
  rectangle: 0.15,8 0.35,9
  rectangle: -0.35,8 -0.15,9
  rectangle: -0.85,8 -0.65,9
  rectangle: -1.35,8 -1.15,9
  rectangle: -1.85,8 -1.65,9
  rectangle: -2.35,8 -2.15,9
  rectangle: -2.85,8 -2.65,9
  rectangle: -3.35,8 -3.15,9
  rectangle: -3.85,8 -3.65,9
  rectangle: -4.35,8 -4.15,9
  rectangle: -4.85,8 -4.65,9
  rectangle: -5.35,8 -5.15,9
  rectangle: -5.85,8 -5.65,9
  rectangle: -6.35,8 -6.15,9
  rectangle: -6.85,8 -6.65,9
  rectangle: -7.35,8 -7.15,9
  rectangle: -9,7.15 -8,7.35
  rectangle: -9,6.65 -8,6.85
  rectangle: -9,6.15 -8,6.35
  rectangle: -9,5.65 -8,5.85
  rectangle: -9,5.15 -8,5.35
  rectangle: -9,4.65 -8,4.85
  rectangle: -9,4.15 -8,4.35
  rectangle: -9,3.65 -8,3.85
  rectangle: -9,3.15 -8,3.35
  rectangle: -9,2.65 -8,2.85
  rectangle: -9,2.15 -8,2.35
  rectangle: -9,1.65 -8,1.85
  rectangle: -9,1.15 -8,1.35
  rectangle: -9,0.65 -8,0.85
  rectangle: -9,0.15 -8,0.35
  rectangle: -9,-0.35 -8,-0.15
  rectangle: -9,-0.85 -8,-0.65
  rectangle: -9,-1.35 -8,-1.15
  rectangle: -9,-1.85 -8,-1.65
  rectangle: -9,-2.35 -8,-2.15
  rectangle: -9,-2.85 -8,-2.65
  rectangle: -9,-3.35 -8,-3.15
  rectangle: -9,-3.85 -8,-3.65
  rectangle: -9,-4.35 -8,-4.15
  rectangle: -9,-4.85 -8,-4.65
  rectangle: -9,-5.35 -8,-5.15
  rectangle: -9,-5.85 -8,-5.65
  rectangle: -9,-6.35 -8,-6.15
  rectangle: -9,-6.85 -8,-6.65
  rectangle: -9,-7.35 -8,-7.15
  lines w0.254: -7.875,-7.55 -7.55,-7.875 7.55,-7.875 7.875,-7.55 7.875,7.55 7.55,7.875 -7.55,7.875 -7.875,7.55 -7.875,-7.55

## PGA64 [mil]
pads (64):
  oct 48x48 hole 32: 1(-450,450) 2(-450,350) 3(-450,250) 4(-450,150) 5(-450,50) 6(-450,-50) 7(-450,-150) 8(-450,-250) 9(-450,-350) 10(-450,-450) 11(-350,-450) 12(-250,-450) 13(-150,-450) 14(-50,-450) 15(50,-450) 16(150,-450) 17(250,-450) 18(350,-450) 19(450,-450) 20(450,-350) 21(450,-250) 22(450,-150) 23(450,-50) 24(450,50) 25(450,150) 26(450,250) 27(450,350) 28(450,450) 29(350,450) 30(250,450) 31(150,450) 32(50,450) 33(-50,450) 34(-150,450) 35(-250,450) 36(-350,450) 37(-350,350) 38(-350,250) 39(-350,150) 40(-350,50) 41(-350,-50) 42(-350,-150) 43(-350,-250) 44(-350,-350) 45(-250,-350) 46(-150,-350) 47(-50,-350) 48(50,-350) 49(150,-350) 50(250,-350) 51(350,-350) 52(350,-250) 53(350,-150) 54(350,-50) 55(350,50) 56(350,150) 57(350,250) 58(350,350) 59(250,350) 60(150,350) 61(50,350) 62(-50,350) 63(-150,350) 64(-250,350)
Top Overlay:
  lines w6: -518.75,37.5 -518.73,18.76 ; -518.73,18.76 -518.75,-518.75 518.74,-518.74 518.75,518.75 -400,518.74 ; -518.73,18.76 -518.74,400 ; -518.74,400 -518.74,518.74 -400,518.74 ; -518.74,400 -400,400 -400,518.74 ; -281.25,-256.25 -281.26,256.26 -256.26,281.26 256.25,281.25 281.25,256.25 281.26,-256.26 256.26,-281.26 -256.25,-281.25 -281.25,-256.25 ; -256.25,-231.25 ccw(c-231.25,-231.25) -231.25,-256.25 231.25,-256.25 ccw(c231.25,-231.25) 256.25,-231.25 256.25,231.25 ccw(c231.25,231.25) 231.25,256.25 -231.26,256.26 ccw(c-231.26,231.26) -256.26,231.26 -256.25,-231.25